# Altium integrated library Linear Technology PMIC-Switching Reg LTC1174-LTC3901.IntLib: 2647 symbols (part 74 of 310)
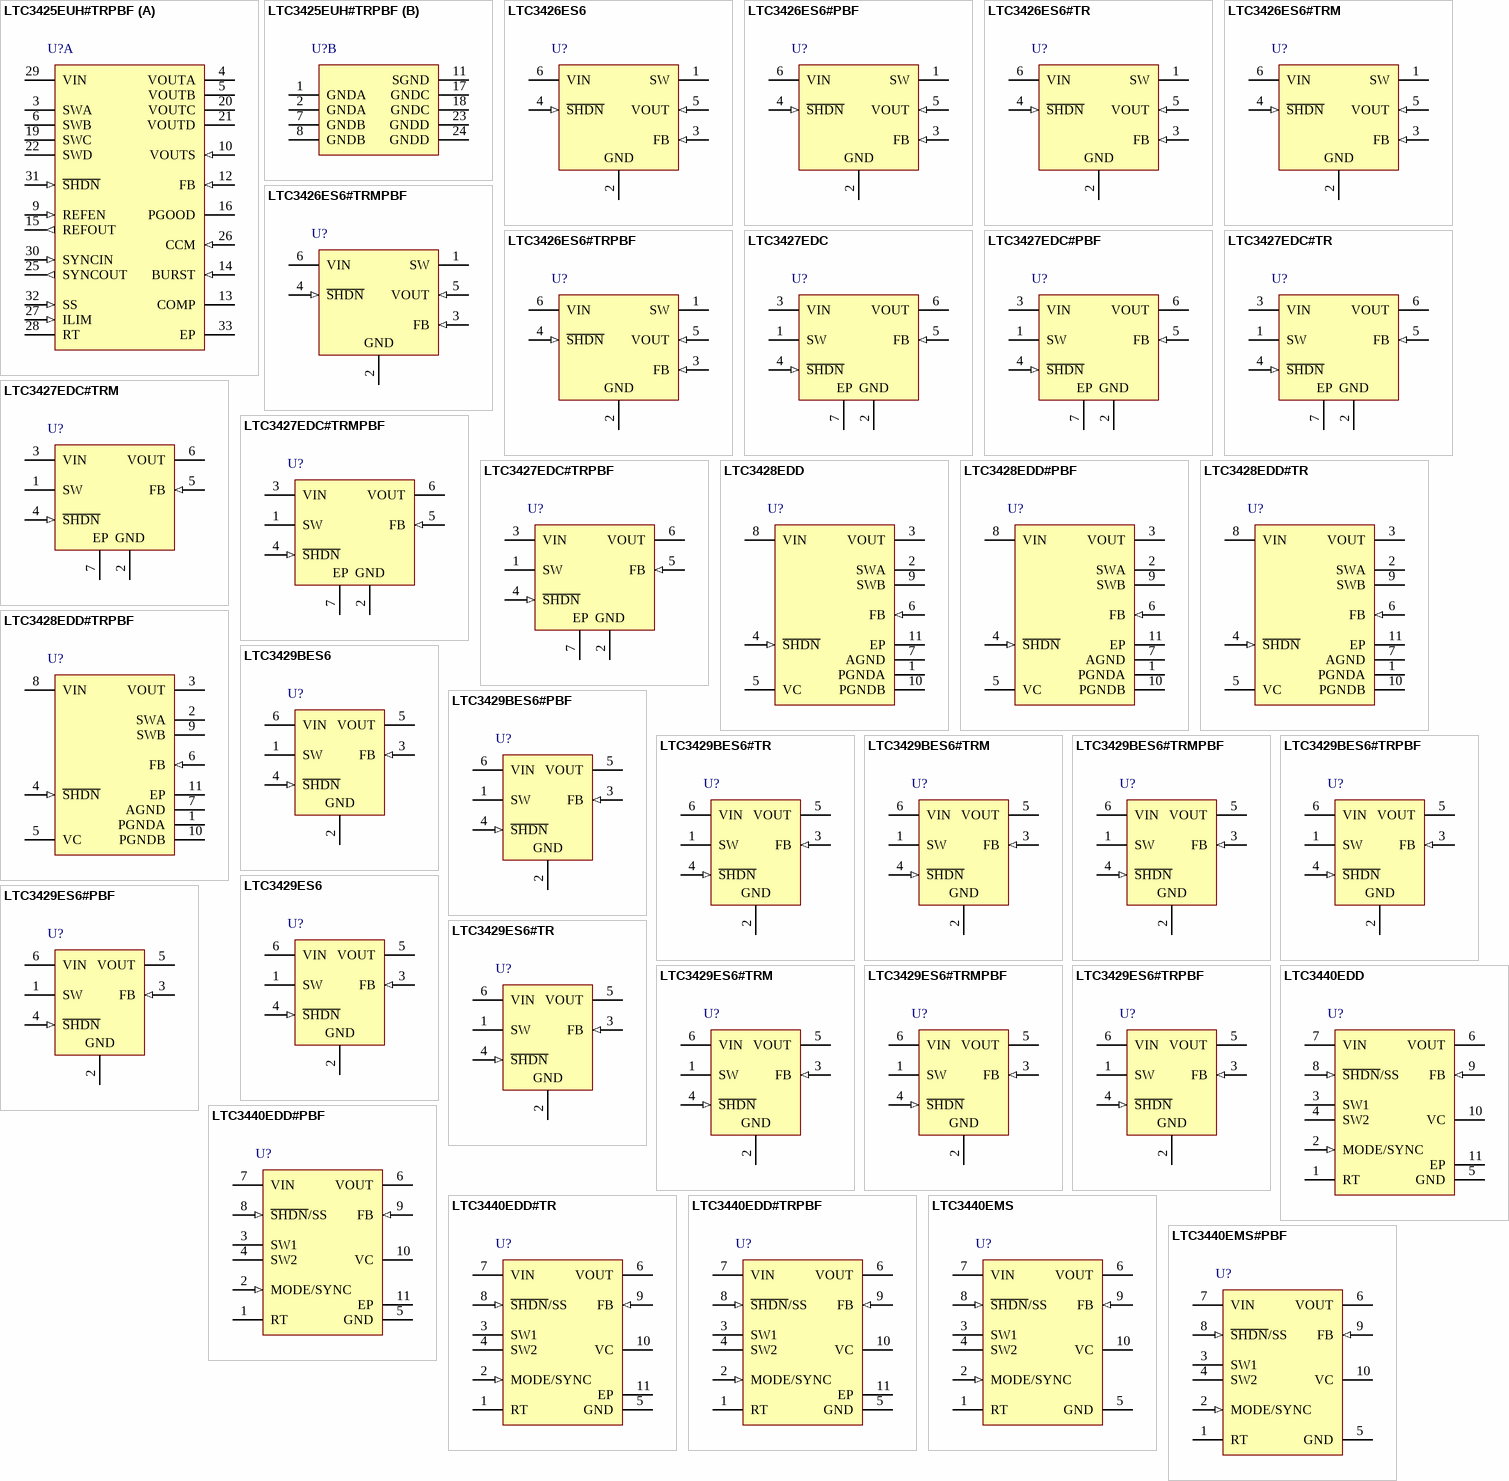
[diagram p158: symbols LTC3425EUH#TRPBF to LTC3440EMS#PBF]

## LTC3425EUH#TRPBF
designator U?
5 A, 8 MHz, 4-Phase Synchronous Step-Up DC/DC Converter, 32-pin QFN (UH-32), -40 to 85 degC, Pb-Free, Tape and Reel; Manufacturer: Linear Technology; PartNumber: LTC3425EUH#TRPBF; Number of Outputs: 1; PackageReference: UH-32; PackageDescription: 32-Pin Plastic QFN, Body 5 x 5 mm, Pitch 0.5 mm; Supplier 1: Digi-Key; Supplier Part Number 1: LTC3425EUH#TRPBF-ND; RoHS: TRUE; Code_JEDEC: MO-220
footprint LT-UH-32_N (QFN, 32-Leads, Body 5.1x5.1mm, Pitch 0.5mm, Thermal Pad 3.45X3.45mm, IPC Medium Density)
footprint LT-UH-32_L (QFN, 32-Leads, Body 5.1x5.1mm, Pitch 0.5mm, Thermal Pad 3.45X3.45mm, IPC High Density)
footprint LT-UH-32_M (QFN, 32-Leads, Body 5.1x5.1mm, Pitch 0.5mm, Thermal Pad 3.45X3.45mm, IPC Low Density)
part A pins: 3 SWA "Switch Pins. Connect inductors here. Minimize trace length to keep EMI to a minimum. For discontinuous inductor current, a controlled impedance is internally connected from SW to VIN to minimize EMI. For applications where (See Datasheet)", 4 VOUTA (power) "Output of the Four Synchronous Rectifiers. Connect output filter capacitors to these pins. Connect one low ESR ceramic capacitor directly from each pin to the ground plane.", 5 VOUTB (power) "Output of the Four Synchronous Rectifiers. Connect output filter capacitors to these pins. Connect one low ESR ceramic capacitor directly from each pin to the ground plane.", 6 SWB "Switch Pins. Connect inductors here. Minimize trace length to keep EMI to a minimum. For discontinuous inductor current, a controlled impedance is internally connected from SW to VIN to minimize EMI. For applications where (See Datasheet)", 9 REFEN (in) "Pull this pin above 1.4V to enable the REF output. Grounding this pin turns the REF output off to reduce quiescent current.", 10 VOUTS (in) "VOUT Sense Pin. Connect VOUTS directly to an output filter capacitor. The top of the feedback divider network should also be tied to this point.", 12 FB (in) "Feedback Pin. Connect FB to a resistor divider, keeping the trace as short as possible. The output voltage can be adjusted according to the following formula: VOUT = 1.22 x (R1+R2)/R1,where R1 is connected from FB(See Datasheet)", 13 COMP "Error Amp Output. A frequency compensation network is connected from this pin to ground to compensate the loop. See the section Closing the Feedback Loop for guidelines.", 14 BURST (in) "Burst Mode Threshold Adjust Pin. A resistor/capacitor combination from this pin to ground programs the average load current at which automatic Burst Mode operation is entered. For manual control of Burst Mode operation, (See Datasheet)", 15 REFOUT (out) "Buffered 1.22V Reference Output. This pin can source up to 100uA and sink up to 10uA (only active when REFEN is pulled high). This pin must be decoupled with a 0.1uF capacitor for stability.", 16 PGOOD (oc) "Open-Drain Output of the Power Good Comparator. This pin will go low when the output voltage drops 11% below its regulated value. Maximum sink current should be limited to 10mA.", 19 SWC "Switch Pins. Connect inductors here. Minimize trace length to keep EMI to a minimum. For discontinuous inductor current, a controlled impedance is internally connected from SW to VIN to minimize EMI. For applications where (See Datasheet)", 20 VOUTC (power) "Output of the Four Synchronous Rectifiers. Connect output filter capacitors to these pins. Connect one low ESR ceramic capacitor directly from each pin to the ground plane.", 21 VOUTD (power) "Output of the Four Synchronous Rectifiers. Connect output filter capacitors to these pins. Connect one low ESR ceramic capacitor directly from each pin to the ground plane.", 22 SWD "Switch Pins. Connect inductors here. Minimize trace length to keep EMI to a minimum. For discontinuous inductor current, a controlled impedance is internally connected from SW to VIN to minimize EMI. For applications where (See Datasheet)", 25 SYNCOUT (out) "Sync Output Pin. A clock is provided at the oscillator frequency, but phase-shifted 180 degrees to allow for synchronizing two devices for an 8-phase converter.", 26 CCM (in) "This pin is used to select forced continuous conduction mode. Normally this pin is grounded to allow CCM or DCM operation. To force continuous conduction mode, tie this pin to VOUT. In this mode, a reverse current of up to (See Datasheet)", 27 ILIM (in) "Current Limit Adjust Pin. Connect a resistor from ILIM to SGND to set the peak current limit threshold for the N-channel MOSFETs, according to the formula (note that this is the peak current in each inductor): (See Datasheet)", 28 RT "Connect a resistor from RT to SGND (or SGND plane) to program the oscillator frequency, according to the formula:fOSC=60/RT, fSWITCH=fOSC/4=15/RT,where fOSC is in MHz and RT is in kohm.", 29 VIN (power) "Input Supply Pin. Connect this to the input supply and decouple with 1uF minimum low ESR ceramic capacitor.", 30 SYNCIN (in) "Oscillator Synchronization Pin. A clock pulse width of 100ns minimum is required to synchronize the internal oscillator. If not used, SYNCIN should be grounded. The typical logic threshold for this input is:VOUT/2,The SYNCIN (See Datasheet)", 31 ~{SHDN} (in) "Shutdown Pin. Grounding S\H\D\N\ (or pulling it below 0.25V) shuts down the IC. Pull pin up to >=1V to enable. Once enabled, the pin only needs to be >=0.65V.", 32 SS (in) "Soft-Start pin. Connect a capacitor from this pin to ground to set the soft-start time, according to the formula: t(ms) = CSS (uF) x 320,The nominal soft-start charging current is 2.5uA. The active range of SS is from 0.8(See Datasheet)", 33 EP (power) "Additional Power Ground for the IC. Connect directly to the power ground plane."
part B pins: 1 GNDA (power) "Power Ground for the IC and the Four Internal N-channel MOSFETs. Connect directly to the power ground plane.", 2 GNDA (power) "Power Ground for the IC and the Four Internal N-channel MOSFETs. Connect directly to the power ground plane.", 7 GNDB (power) "Power Ground for the IC and the Four Internal N-channel MOSFETs. Connect directly to the power ground plane.", 8 GNDB (power) "Power Ground for the IC and the Four Internal N-channel MOSFETs. Connect directly to the power ground plane.", 11 SGND (power) "Signal Ground Pin. Connect to ground plane, near the feedback divider resistor.", 17 GNDC (power) "Power Ground for the IC and the Four Internal N-channel MOSFETs. Connect directly to the power ground plane.", 18 GNDC (power) "Power Ground for the IC and the Four Internal N-channel MOSFETs. Connect directly to the power ground plane.", 23 GNDD (power) "Power Ground for the IC and the Four Internal N-channel MOSFETs. Connect directly to the power ground plane.", 24 GNDD (power) "Power Ground for the IC and the Four Internal N-channel MOSFETs. Connect directly to the power ground plane."

## LTC3426ES6
designator U?
1.2 MHz Step-Up DC/DC Converter, 6-pin SOT23 (S6-6), -40 to 85 degC; Manufacturer: Linear Technology; PartNumber: LTC3426ES6; Number of Outputs: 1; PackageReference: S6-6; PackageDescription: 6-Pin Plastic TSOT-23, Body 2.9 x 1.63 mm, Pitch 0.95 mm; RoHS: FALSE; Code_JEDEC: MO-193
footprint LT-S6-6-TSOT-23_N (SOT23, 6-Leads, Body 2.9x1.75mm, Pitch 0.95mm, IPC Medium Density)
footprint LT-S6-6-TSOT-23_L (SOT23, 6-Leads, Body 2.9x1.75mm, Pitch 0.95mm, IPC High Density)
footprint LT-S6-6-TSOT-23_M (SOT23, 6-Leads, Body 2.9x1.75mm, Pitch 0.95mm, IPC Low Density)
pins: 1 SW (power) "Switch Pin. Connect inductor between SW and VIN. A Schottky diode is connected between SW and VOUT. Keep these PCB trace lengths as short and wide as possible to reduce EMI and voltage overshoot. If the inductor current (See Datasheet)", 2 GND (power) "Signal and Power Ground. Provide a short direct PCB path between GND and the (-) side of the output capacitor(s).", 3 FB (in) "Feedback Input to the gm Error Amplifier. Connect resistor divider tap to this pin.", 4 ~{SHDN} (in) "Logic Controlled Shutdown Input. S\H\D\N\ = High: Normal free running operation,S\H\D\N\ = Low: Shutdown, quiescent current < 1uA Typically, S\H\D\N\ should be connected to VIN through a 1M pull-up resistor.", 5 VOUT (in) "Output Voltage Sense Input. The NMOS switch gate drive is derived from the greater of VOUT and VIN.", 6 VIN (power) "Input Supply. Must be locally bypassed."

## LTC3426ES6#PBF
designator U?
1.2 MHz Step-Up DC/DC Converter, 6-pin SOT23 (S6-6), -40 to 85 degC, Pb-Free; Manufacturer: Linear Technology; PartNumber: LTC3426ES6#PBF; Number of Outputs: 1; PackageReference: S6-6; PackageDescription: 6-Pin Plastic TSOT-23, Body 2.9 x 1.63 mm, Pitch 0.95 mm; Supplier 1: Newark; Supplier Part Number 1: 78T3189; RoHS: TRUE; Code_JEDEC: MO-193
footprint LT-S6-6-TSOT-23_N (SOT23, 6-Leads, Body 2.9x1.75mm, Pitch 0.95mm, IPC Medium Density)
footprint LT-S6-6-TSOT-23_L (SOT23, 6-Leads, Body 2.9x1.75mm, Pitch 0.95mm, IPC High Density)
footprint LT-S6-6-TSOT-23_M (SOT23, 6-Leads, Body 2.9x1.75mm, Pitch 0.95mm, IPC Low Density)
pins: 1 SW (power) "Switch Pin. Connect inductor between SW and VIN. A Schottky diode is connected between SW and VOUT. Keep these PCB trace lengths as short and wide as possible to reduce EMI and voltage overshoot. If the inductor current (See Datasheet)", 2 GND (power) "Signal and Power Ground. Provide a short direct PCB path between GND and the (-) side of the output capacitor(s).", 3 FB (in) "Feedback Input to the gm Error Amplifier. Connect resistor divider tap to this pin.", 4 ~{SHDN} (in) "Logic Controlled Shutdown Input. S\H\D\N\ = High: Normal free running operation,S\H\D\N\ = Low: Shutdown, quiescent current < 1uA Typically, S\H\D\N\ should be connected to VIN through a 1M pull-up resistor.", 5 VOUT (in) "Output Voltage Sense Input. The NMOS switch gate drive is derived from the greater of VOUT and VIN.", 6 VIN (power) "Input Supply. Must be locally bypassed."

## LTC3426ES6#TR
designator U?
1.2 MHz Step-Up DC/DC Converter, 6-pin SOT23 (S6-6), -40 to 85 degC, Tape and Reel; Manufacturer: Linear Technology; PartNumber: LTC3426ES6#TR; Number of Outputs: 1; PackageReference: S6-6; PackageDescription: 6-Pin Plastic TSOT-23, Body 2.9 x 1.63 mm, Pitch 0.95 mm; RoHS: FALSE; Code_JEDEC: MO-193
footprint LT-S6-6-TSOT-23_N (SOT23, 6-Leads, Body 2.9x1.75mm, Pitch 0.95mm, IPC Medium Density)
footprint LT-S6-6-TSOT-23_L (SOT23, 6-Leads, Body 2.9x1.75mm, Pitch 0.95mm, IPC High Density)
footprint LT-S6-6-TSOT-23_M (SOT23, 6-Leads, Body 2.9x1.75mm, Pitch 0.95mm, IPC Low Density)
pins: 1 SW (power) "Switch Pin. Connect inductor between SW and VIN. A Schottky diode is connected between SW and VOUT. Keep these PCB trace lengths as short and wide as possible to reduce EMI and voltage overshoot. If the inductor current (See Datasheet)", 2 GND (power) "Signal and Power Ground. Provide a short direct PCB path between GND and the (-) side of the output capacitor(s).", 3 FB (in) "Feedback Input to the gm Error Amplifier. Connect resistor divider tap to this pin.", 4 ~{SHDN} (in) "Logic Controlled Shutdown Input. S\H\D\N\ = High: Normal free running operation,S\H\D\N\ = Low: Shutdown, quiescent current < 1uA Typically, S\H\D\N\ should be connected to VIN through a 1M pull-up resistor.", 5 VOUT (in) "Output Voltage Sense Input. The NMOS switch gate drive is derived from the greater of VOUT and VIN.", 6 VIN (power) "Input Supply. Must be locally bypassed."

## LTC3426ES6#TRM
designator U?
1.2 MHz Step-Up DC/DC Converter, 6-pin SOT23 (S6-6), -40 to 85 degC, Mini Tape and Reel; Manufacturer: Linear Technology; PartNumber: LTC3426ES6#TRM; Number of Outputs: 1; PackageReference: S6-6; PackageDescription: 6-Pin Plastic TSOT-23, Body 2.9 x 1.63 mm, Pitch 0.95 mm; RoHS: FALSE; Code_JEDEC: MO-193
footprint LT-S6-6-TSOT-23_N (SOT23, 6-Leads, Body 2.9x1.75mm, Pitch 0.95mm, IPC Medium Density)
footprint LT-S6-6-TSOT-23_L (SOT23, 6-Leads, Body 2.9x1.75mm, Pitch 0.95mm, IPC High Density)
footprint LT-S6-6-TSOT-23_M (SOT23, 6-Leads, Body 2.9x1.75mm, Pitch 0.95mm, IPC Low Density)
pins: 1 SW (power) "Switch Pin. Connect inductor between SW and VIN. A Schottky diode is connected between SW and VOUT. Keep these PCB trace lengths as short and wide as possible to reduce EMI and voltage overshoot. If the inductor current (See Datasheet)", 2 GND (power) "Signal and Power Ground. Provide a short direct PCB path between GND and the (-) side of the output capacitor(s).", 3 FB (in) "Feedback Input to the gm Error Amplifier. Connect resistor divider tap to this pin.", 4 ~{SHDN} (in) "Logic Controlled Shutdown Input. S\H\D\N\ = High: Normal free running operation,S\H\D\N\ = Low: Shutdown, quiescent current < 1uA Typically, S\H\D\N\ should be connected to VIN through a 1M pull-up resistor.", 5 VOUT (in) "Output Voltage Sense Input. The NMOS switch gate drive is derived from the greater of VOUT and VIN.", 6 VIN (power) "Input Supply. Must be locally bypassed."

## LTC3426ES6#TRMPBF
designator U?
1.2 MHz Step-Up DC/DC Converter, 6-pin SOT23 (S6-6), -40 to 85 degC, Pb-Free, Mini Tape and Reel; Manufacturer: Linear Technology; PartNumber: LTC3426ES6#TRMPBF; Number of Outputs: 1; PackageReference: S6-6; PackageDescription: 6-Pin Plastic TSOT-23, Body 2.9 x 1.63 mm, Pitch 0.95 mm; Supplier 1: Digi-Key; Supplier Part Number 1: LTC3426ES6#TRMPBFTR-ND; RoHS: TRUE; Code_JEDEC: MO-193
footprint LT-S6-6-TSOT-23_N (SOT23, 6-Leads, Body 2.9x1.75mm, Pitch 0.95mm, IPC Medium Density)
footprint LT-S6-6-TSOT-23_L (SOT23, 6-Leads, Body 2.9x1.75mm, Pitch 0.95mm, IPC High Density)
footprint LT-S6-6-TSOT-23_M (SOT23, 6-Leads, Body 2.9x1.75mm, Pitch 0.95mm, IPC Low Density)
pins: 1 SW (power) "Switch Pin. Connect inductor between SW and VIN. A Schottky diode is connected between SW and VOUT. Keep these PCB trace lengths as short and wide as possible to reduce EMI and voltage overshoot. If the inductor current (See Datasheet)", 2 GND (power) "Signal and Power Ground. Provide a short direct PCB path between GND and the (-) side of the output capacitor(s).", 3 FB (in) "Feedback Input to the gm Error Amplifier. Connect resistor divider tap to this pin.", 4 ~{SHDN} (in) "Logic Controlled Shutdown Input. S\H\D\N\ = High: Normal free running operation,S\H\D\N\ = Low: Shutdown, quiescent current < 1uA Typically, S\H\D\N\ should be connected to VIN through a 1M pull-up resistor.", 5 VOUT (in) "Output Voltage Sense Input. The NMOS switch gate drive is derived from the greater of VOUT and VIN.", 6 VIN (power) "Input Supply. Must be locally bypassed."

## LTC3426ES6#TRPBF
designator U?
1.2 MHz Step-Up DC/DC Converter, 6-pin SOT23 (S6-6), -40 to 85 degC, Pb-Free, Tape and Reel; Manufacturer: Linear Technology; PartNumber: LTC3426ES6#TRPBF; Number of Outputs: 1; PackageReference: S6-6; PackageDescription: 6-Pin Plastic TSOT-23, Body 2.9 x 1.63 mm, Pitch 0.95 mm; Supplier 1: Digi-Key; Supplier Part Number 1: LTC3426ES6#TRPBF-ND; RoHS: TRUE; Code_JEDEC: MO-193
footprint LT-S6-6-TSOT-23_N (SOT23, 6-Leads, Body 2.9x1.75mm, Pitch 0.95mm, IPC Medium Density)
footprint LT-S6-6-TSOT-23_L (SOT23, 6-Leads, Body 2.9x1.75mm, Pitch 0.95mm, IPC High Density)
footprint LT-S6-6-TSOT-23_M (SOT23, 6-Leads, Body 2.9x1.75mm, Pitch 0.95mm, IPC Low Density)
pins: 1 SW (power) "Switch Pin. Connect inductor between SW and VIN. A Schottky diode is connected between SW and VOUT. Keep these PCB trace lengths as short and wide as possible to reduce EMI and voltage overshoot. If the inductor current (See Datasheet)", 2 GND (power) "Signal and Power Ground. Provide a short direct PCB path between GND and the (-) side of the output capacitor(s).", 3 FB (in) "Feedback Input to the gm Error Amplifier. Connect resistor divider tap to this pin.", 4 ~{SHDN} (in) "Logic Controlled Shutdown Input. S\H\D\N\ = High: Normal free running operation,S\H\D\N\ = Low: Shutdown, quiescent current < 1uA Typically, S\H\D\N\ should be connected to VIN through a 1M pull-up resistor.", 5 VOUT (in) "Output Voltage Sense Input. The NMOS switch gate drive is derived from the greater of VOUT and VIN.", 6 VIN (power) "Input Supply. Must be locally bypassed."

## LTC3427EDC
designator U?
500 mA, 1.25 MHz Synchronous Step-Up DC/DC Converter, 6-pin SON (DC6-6), -40 to 85 degC; Manufacturer: Linear Technology; PartNumber: LTC3427EDC; Number of Outputs: 1; PackageReference: DC6-6; PackageDescription: 6-Pin Plastic DFN, Body 2 x 2 mm, Pitch 0.5 mm; RoHS: FALSE; Code_JEDEC: MO-229
footprint LT-DC6-6_V (SON, 6-Leads, Body 2x2mm, Pitch 0.5mm, Thermal Pad 1.42x0.61mm)
pins: 1 SW "Switch Pin for the Inductor Connection. Minimize trace length between SW and the inductor. For discontinuous inductor current, an internal 200ohm impedance is connected from SW to VIN to eliminate high frequency ringing, (See Datasheet)", 2 GND (power) "Signal and Power Ground. Provide a short, direct PCB path between GND and the (-) side of the input and output capacitor(s).", 3 VIN (power) "Input Supply Voltage. Connect VIN to the input supply and decouple with a 2.2uF or larger ceramic capacitor as close to VIN as possible.", 4 ~{SHDN} (in) "Shutdown Input. Less than 350mV on S\H\D\N\ shuts down the LTC3427. Placing 1V or more on S\H\D\N\ enables the LTC3427.", 5 FB (in) "Feedback Input to the Error Amplifier. Connect resistor divider tap to this pin.", 6 VOUT (power) "Output Voltage Sense Input and Drain of the Internal Synchronous Rectifier MOSFET. Driver bias is derived from VOUT. PCB trace length from VOUT to the output filter capacitor(s) should be as short and wide as possible.", 7 EP (power) "Ground for the LTC3427. This pin must be soldered to the PCB ground plane for electrical connection and rated thermal performance."

## LTC3427EDC#PBF
designator U?
500 mA, 1.25 MHz Synchronous Step-Up DC/DC Converter, 6-pin SON (DC6-6), -40 to 85 degC, Pb-Free; Manufacturer: Linear Technology; PartNumber: LTC3427EDC#PBF; Number of Outputs: 1; PackageReference: DC6-6; PackageDescription: 6-Pin Plastic DFN, Body 2 x 2 mm, Pitch 0.5 mm; RoHS: TRUE; Code_JEDEC: MO-229
footprint LT-DC6-6_V (SON, 6-Leads, Body 2x2mm, Pitch 0.5mm, Thermal Pad 1.42x0.61mm)
pins: 1 SW "Switch Pin for the Inductor Connection. Minimize trace length between SW and the inductor. For discontinuous inductor current, an internal 200ohm impedance is connected from SW to VIN to eliminate high frequency ringing, (See Datasheet)", 2 GND (power) "Signal and Power Ground. Provide a short, direct PCB path between GND and the (-) side of the input and output capacitor(s).", 3 VIN (power) "Input Supply Voltage. Connect VIN to the input supply and decouple with a 2.2uF or larger ceramic capacitor as close to VIN as possible.", 4 ~{SHDN} (in) "Shutdown Input. Less than 350mV on S\H\D\N\ shuts down the LTC3427. Placing 1V or more on S\H\D\N\ enables the LTC3427.", 5 FB (in) "Feedback Input to the Error Amplifier. Connect resistor divider tap to this pin.", 6 VOUT (power) "Output Voltage Sense Input and Drain of the Internal Synchronous Rectifier MOSFET. Driver bias is derived from VOUT. PCB trace length from VOUT to the output filter capacitor(s) should be as short and wide as possible.", 7 EP (power) "Ground for the LTC3427. This pin must be soldered to the PCB ground plane for electrical connection and rated thermal performance."

## LTC3427EDC#TR
designator U?
500 mA, 1.25 MHz Synchronous Step-Up DC/DC Converter, 6-pin SON (DC6-6), -40 to 85 degC, Tape and Reel; Manufacturer: Linear Technology; PartNumber: LTC3427EDC#TR; Number of Outputs: 1; PackageReference: DC6-6; PackageDescription: 6-Pin Plastic DFN, Body 2 x 2 mm, Pitch 0.5 mm; RoHS: FALSE; Code_JEDEC: MO-229
footprint LT-DC6-6_V (SON, 6-Leads, Body 2x2mm, Pitch 0.5mm, Thermal Pad 1.42x0.61mm)
pins: 1 SW "Switch Pin for the Inductor Connection. Minimize trace length between SW and the inductor. For discontinuous inductor current, an internal 200ohm impedance is connected from SW to VIN to eliminate high frequency ringing, (See Datasheet)", 2 GND (power) "Signal and Power Ground. Provide a short, direct PCB path between GND and the (-) side of the input and output capacitor(s).", 3 VIN (power) "Input Supply Voltage. Connect VIN to the input supply and decouple with a 2.2uF or larger ceramic capacitor as close to VIN as possible.", 4 ~{SHDN} (in) "Shutdown Input. Less than 350mV on S\H\D\N\ shuts down the LTC3427. Placing 1V or more on S\H\D\N\ enables the LTC3427.", 5 FB (in) "Feedback Input to the Error Amplifier. Connect resistor divider tap to this pin.", 6 VOUT (power) "Output Voltage Sense Input and Drain of the Internal Synchronous Rectifier MOSFET. Driver bias is derived from VOUT. PCB trace length from VOUT to the output filter capacitor(s) should be as short and wide as possible.", 7 EP (power) "Ground for the LTC3427. This pin must be soldered to the PCB ground plane for electrical connection and rated thermal performance."

## LTC3427EDC#TRM
designator U?
500 mA, 1.25 MHz Synchronous Step-Up DC/DC Converter, 6-pin SON (DC6-6), -40 to 85 degC, Mini Tape and Reel; Manufacturer: Linear Technology; PartNumber: LTC3427EDC#TRM; Number of Outputs: 1; PackageReference: DC6-6; PackageDescription: 6-Pin Plastic DFN, Body 2 x 2 mm, Pitch 0.5 mm; RoHS: FALSE; Code_JEDEC: MO-229
footprint LT-DC6-6_V (SON, 6-Leads, Body 2x2mm, Pitch 0.5mm, Thermal Pad 1.42x0.61mm)
pins: 1 SW "Switch Pin for the Inductor Connection. Minimize trace length between SW and the inductor. For discontinuous inductor current, an internal 200ohm impedance is connected from SW to VIN to eliminate high frequency ringing, (See Datasheet)", 2 GND (power) "Signal and Power Ground. Provide a short, direct PCB path between GND and the (-) side of the input and output capacitor(s).", 3 VIN (power) "Input Supply Voltage. Connect VIN to the input supply and decouple with a 2.2uF or larger ceramic capacitor as close to VIN as possible.", 4 ~{SHDN} (in) "Shutdown Input. Less than 350mV on S\H\D\N\ shuts down the LTC3427. Placing 1V or more on S\H\D\N\ enables the LTC3427.", 5 FB (in) "Feedback Input to the Error Amplifier. Connect resistor divider tap to this pin.", 6 VOUT (power) "Output Voltage Sense Input and Drain of the Internal Synchronous Rectifier MOSFET. Driver bias is derived from VOUT. PCB trace length from VOUT to the output filter capacitor(s) should be as short and wide as possible.", 7 EP (power) "Ground for the LTC3427. This pin must be soldered to the PCB ground plane for electrical connection and rated thermal performance."

## LTC3427EDC#TRMPBF
designator U?
500 mA, 1.25 MHz Synchronous Step-Up DC/DC Converter, 6-pin SON (DC6-6), -40 to 85 degC, Pb-Free, Mini Tape and Reel; Manufacturer: Linear Technology; PartNumber: LTC3427EDC#TRMPBF; Number of Outputs: 1; PackageReference: DC6-6; PackageDescription: 6-Pin Plastic DFN, Body 2 x 2 mm, Pitch 0.5 mm; Supplier 1: Digi-Key; Supplier Part Number 1: LTC3427EDC#TRMPBF-ND; RoHS: TRUE; Code_JEDEC: MO-229
footprint LT-DC6-6_V (SON, 6-Leads, Body 2x2mm, Pitch 0.5mm, Thermal Pad 1.42x0.61mm)
pins: 1 SW "Switch Pin for the Inductor Connection. Minimize trace length between SW and the inductor. For discontinuous inductor current, an internal 200ohm impedance is connected from SW to VIN to eliminate high frequency ringing, (See Datasheet)", 2 GND (power) "Signal and Power Ground. Provide a short, direct PCB path between GND and the (-) side of the input and output capacitor(s).", 3 VIN (power) "Input Supply Voltage. Connect VIN to the input supply and decouple with a 2.2uF or larger ceramic capacitor as close to VIN as possible.", 4 ~{SHDN} (in) "Shutdown Input. Less than 350mV on S\H\D\N\ shuts down the LTC3427. Placing 1V or more on S\H\D\N\ enables the LTC3427.", 5 FB (in) "Feedback Input to the Error Amplifier. Connect resistor divider tap to this pin.", 6 VOUT (power) "Output Voltage Sense Input and Drain of the Internal Synchronous Rectifier MOSFET. Driver bias is derived from VOUT. PCB trace length from VOUT to the output filter capacitor(s) should be as short and wide as possible.", 7 EP (power) "Ground for the LTC3427. This pin must be soldered to the PCB ground plane for electrical connection and rated thermal performance."

## LTC3427EDC#TRPBF
designator U?
500 mA, 1.25 MHz Synchronous Step-Up DC/DC Converter, 6-pin SON (DC6-6), -40 to 85 degC, Pb-Free, Tape and Reel; Manufacturer: Linear Technology; PartNumber: LTC3427EDC#TRPBF; Number of Outputs: 1; PackageReference: DC6-6; PackageDescription: 6-Pin Plastic DFN, Body 2 x 2 mm, Pitch 0.5 mm; Supplier 1: Digi-Key; Supplier Part Number 1: LTC3427EDC#TRPBF-ND; RoHS: TRUE; Code_JEDEC: MO-229
footprint LT-DC6-6_V (SON, 6-Leads, Body 2x2mm, Pitch 0.5mm, Thermal Pad 1.42x0.61mm)
pins: 1 SW "Switch Pin for the Inductor Connection. Minimize trace length between SW and the inductor. For discontinuous inductor current, an internal 200ohm impedance is connected from SW to VIN to eliminate high frequency ringing, (See Datasheet)", 2 GND (power) "Signal and Power Ground. Provide a short, direct PCB path between GND and the (-) side of the input and output capacitor(s).", 3 VIN (power) "Input Supply Voltage. Connect VIN to the input supply and decouple with a 2.2uF or larger ceramic capacitor as close to VIN as possible.", 4 ~{SHDN} (in) "Shutdown Input. Less than 350mV on S\H\D\N\ shuts down the LTC3427. Placing 1V or more on S\H\D\N\ enables the LTC3427.", 5 FB (in) "Feedback Input to the Error Amplifier. Connect resistor divider tap to this pin.", 6 VOUT (power) "Output Voltage Sense Input and Drain of the Internal Synchronous Rectifier MOSFET. Driver bias is derived from VOUT. PCB trace length from VOUT to the output filter capacitor(s) should be as short and wide as possible.", 7 EP (power) "Ground for the LTC3427. This pin must be soldered to the PCB ground plane for electrical connection and rated thermal performance."

## LTC3428EDD
designator U?
4 A, 2 MHz Dual Phase Step-Up DC/DC Converter, 10-pin SON (DD-10), -40 to 85 degC; Manufacturer: Linear Technology; PartNumber: LTC3428EDD; Number of Outputs: 1; PackageReference: DD-10; PackageDescription: 10-Pin Plastic DFN, Body 3 x 3 mm, Pitch 0.5 mm; RoHS: FALSE; Code_JEDEC: MO-229
footprint LT-DD-10_V (SON, 10-Leads, Body 3x3mm, Pitch 0.5mm, Thermal Pad 2.38x1.65mm)
pins: 1 PGNDA (power) "Power Ground for the IC. Tie directly to local ground plane.", 2 SWA (power) "Phase B and Phase A Switch Pins. The inductor and Schottky diodes for each phase are connected to these pins. Minimize trace length to reduce EMI.", 3 VOUT (power) "Power Supply Output and Bootstrapped Power Source for the IC. Connect low ESR output filter capacitors from this pin to the ground plane.", 4 ~{SHDN} (in) "Shutdown Pin. Grounding this pin shuts down the IC. Connect to a voltage greater than 1.5V to enable.", 5 VC "Error Amp Output. A frequency compensation network is connected to this pin to compensate the boost converter loop.", 6 FB (in) "Feedback Pin. A resistor divider from VOUT is connected here to set the output voltage according to VOUT = 1.243 ?(1 + R1 / R2)", 7 AGND (power) "Signal Ground for the IC. Connect to ground plane near feedback resistor divider.", 8 VIN (power) "Input Supply Pin. Bypass VIN with a low ESR ceramic capacitor of at least 4.7uF. X5R and X7R dielectrics are preferred for their superior voltage and temperature characteristics.", 9 SWB (power) "Phase B and Phase A Switch Pins. The inductor and Schottky diodes for each phase are connected to these pins. Minimize trace length to reduce EMI.", 10 PGNDB (power) "Power Ground for the IC. Tie directly to local ground plane.", 11 EP (power) "Power Ground for the IC. Tie directly to local ground plane."

## LTC3428EDD#PBF
designator U?
4 A, 2 MHz Dual Phase Step-Up DC/DC Converter, 10-pin SON (DD-10), -40 to 85 degC, Pb-Free; Manufacturer: Linear Technology; PartNumber: LTC3428EDD#PBF; Number of Outputs: 1; PackageReference: DD-10; PackageDescription: 10-Pin Plastic DFN, Body 3 x 3 mm, Pitch 0.5 mm; Supplier 1: Digi-Key; Supplier Part Number 1: LTC3428EDD#PBF-ND; RoHS: TRUE; Code_JEDEC: MO-229
footprint LT-DD-10_V (SON, 10-Leads, Body 3x3mm, Pitch 0.5mm, Thermal Pad 2.38x1.65mm)
pins: 1 PGNDA (power) "Power Ground for the IC. Tie directly to local ground plane.", 2 SWA (power) "Phase B and Phase A Switch Pins. The inductor and Schottky diodes for each phase are connected to these pins. Minimize trace length to reduce EMI.", 3 VOUT (power) "Power Supply Output and Bootstrapped Power Source for the IC. Connect low ESR output filter capacitors from this pin to the ground plane.", 4 ~{SHDN} (in) "Shutdown Pin. Grounding this pin shuts down the IC. Connect to a voltage greater than 1.5V to enable.", 5 VC "Error Amp Output. A frequency compensation network is connected to this pin to compensate the boost converter loop.", 6 FB (in) "Feedback Pin. A resistor divider from VOUT is connected here to set the output voltage according to VOUT = 1.243 ?(1 + R1 / R2)", 7 AGND (power) "Signal Ground for the IC. Connect to ground plane near feedback resistor divider.", 8 VIN (power) "Input Supply Pin. Bypass VIN with a low ESR ceramic capacitor of at least 4.7uF. X5R and X7R dielectrics are preferred for their superior voltage and temperature characteristics.", 9 SWB (power) "Phase B and Phase A Switch Pins. The inductor and Schottky diodes for each phase are connected to these pins. Minimize trace length to reduce EMI.", 10 PGNDB (power) "Power Ground for the IC. Tie directly to local ground plane.", 11 EP (power) "Power Ground for the IC. Tie directly to local ground plane."

## LTC3428EDD#TR
designator U?
4 A, 2 MHz Dual Phase Step-Up DC/DC Converter, 10-pin SON (DD-10), -40 to 85 degC, Tape and Reel; Manufacturer: Linear Technology; PartNumber: LTC3428EDD#TR; Number of Outputs: 1; PackageReference: DD-10; PackageDescription: 10-Pin Plastic DFN, Body 3 x 3 mm, Pitch 0.5 mm; RoHS: FALSE; Code_JEDEC: MO-229
footprint LT-DD-10_V (SON, 10-Leads, Body 3x3mm, Pitch 0.5mm, Thermal Pad 2.38x1.65mm)
pins: 1 PGNDA (power) "Power Ground for the IC. Tie directly to local ground plane.", 2 SWA (power) "Phase B and Phase A Switch Pins. The inductor and Schottky diodes for each phase are connected to these pins. Minimize trace length to reduce EMI.", 3 VOUT (power) "Power Supply Output and Bootstrapped Power Source for the IC. Connect low ESR output filter capacitors from this pin to the ground plane.", 4 ~{SHDN} (in) "Shutdown Pin. Grounding this pin shuts down the IC. Connect to a voltage greater than 1.5V to enable.", 5 VC "Error Amp Output. A frequency compensation network is connected to this pin to compensate the boost converter loop.", 6 FB (in) "Feedback Pin. A resistor divider from VOUT is connected here to set the output voltage according to VOUT = 1.243 ?(1 + R1 / R2)", 7 AGND (power) "Signal Ground for the IC. Connect to ground plane near feedback resistor divider.", 8 VIN (power) "Input Supply Pin. Bypass VIN with a low ESR ceramic capacitor of at least 4.7uF. X5R and X7R dielectrics are preferred for their superior voltage and temperature characteristics.", 9 SWB (power) "Phase B and Phase A Switch Pins. The inductor and Schottky diodes for each phase are connected to these pins. Minimize trace length to reduce EMI.", 10 PGNDB (power) "Power Ground for the IC. Tie directly to local ground plane.", 11 EP (power) "Power Ground for the IC. Tie directly to local ground plane."

## LTC3428EDD#TRPBF
designator U?
4 A, 2 MHz Dual Phase Step-Up DC/DC Converter, 10-pin SON (DD-10), -40 to 85 degC, Pb-Free, Tape and Reel; Manufacturer: Linear Technology; PartNumber: LTC3428EDD#TRPBF; Number of Outputs: 1; PackageReference: DD-10; PackageDescription: 10-Pin Plastic DFN, Body 3 x 3 mm, Pitch 0.5 mm; Supplier 1: Digi-Key; Supplier Part Number 1: LTC3428EDD#TRPBF-ND; RoHS: TRUE; Code_JEDEC: MO-229
footprint LT-DD-10_V (SON, 10-Leads, Body 3x3mm, Pitch 0.5mm, Thermal Pad 2.38x1.65mm)
pins: 1 PGNDA (power) "Power Ground for the IC. Tie directly to local ground plane.", 2 SWA (power) "Phase B and Phase A Switch Pins. The inductor and Schottky diodes for each phase are connected to these pins. Minimize trace length to reduce EMI.", 3 VOUT (power) "Power Supply Output and Bootstrapped Power Source for the IC. Connect low ESR output filter capacitors from this pin to the ground plane.", 4 ~{SHDN} (in) "Shutdown Pin. Grounding this pin shuts down the IC. Connect to a voltage greater than 1.5V to enable.", 5 VC "Error Amp Output. A frequency compensation network is connected to this pin to compensate the boost converter loop.", 6 FB (in) "Feedback Pin. A resistor divider from VOUT is connected here to set the output voltage according to VOUT = 1.243 ?(1 + R1 / R2)", 7 AGND (power) "Signal Ground for the IC. Connect to ground plane near feedback resistor divider.", 8 VIN (power) "Input Supply Pin. Bypass VIN with a low ESR ceramic capacitor of at least 4.7uF. X5R and X7R dielectrics are preferred for their superior voltage and temperature characteristics.", 9 SWB (power) "Phase B and Phase A Switch Pins. The inductor and Schottky diodes for each phase are connected to these pins. Minimize trace length to reduce EMI.", 10 PGNDB (power) "Power Ground for the IC. Tie directly to local ground plane.", 11 EP (power) "Power Ground for the IC. Tie directly to local ground plane."

## LTC3429BES6
designator U?
600 mA, 500 kHz Micropower Synchronous Boost Converter with Output Disconnect, 6-pin SOT23 (S6-6), -40 to 85 degC; Manufacturer: Linear Technology; PartNumber: LTC3429BES6; Number of Outputs: 1; PackageReference: S6-6; PackageDescription: 6-Pin Plastic TSOT-23, Body 2.9 x 1.63 mm, Pitch 0.95 mm; RoHS: FALSE; Code_JEDEC: MO-193
footprint LT-S6-6-TSOT-23_N (SOT23, 6-Leads, Body 2.9x1.75mm, Pitch 0.95mm, IPC Medium Density)
footprint LT-S6-6-TSOT-23_L (SOT23, 6-Leads, Body 2.9x1.75mm, Pitch 0.95mm, IPC High Density)
footprint LT-S6-6-TSOT-23_M (SOT23, 6-Leads, Body 2.9x1.75mm, Pitch 0.95mm, IPC Low Density)
pins: 1 SW, 2 GND (power), 3 FB (in), 4 ~{SHDN} (in), 5 VOUT (power), 6 VIN (power)

## LTC3429BES6#PBF
designator U?
600 mA, 500 kHz Micropower Synchronous Boost Converter with Output Disconnect, 6-pin SOT23 (S6-6), -40 to 85 degC, Pb-Free; Manufacturer: Linear Technology; PartNumber: LTC3429BES6#PBF; Number of Outputs: 1; PackageReference: S6-6; PackageDescription: 6-Pin Plastic TSOT-23, Body 2.9 x 1.63 mm, Pitch 0.95 mm; Supplier 1: Newark; Supplier Part Number 1: 78T3191; RoHS: TRUE; Code_JEDEC: MO-193
footprint LT-S6-6-TSOT-23_N (SOT23, 6-Leads, Body 2.9x1.75mm, Pitch 0.95mm, IPC Medium Density)
footprint LT-S6-6-TSOT-23_L (SOT23, 6-Leads, Body 2.9x1.75mm, Pitch 0.95mm, IPC High Density)
footprint LT-S6-6-TSOT-23_M (SOT23, 6-Leads, Body 2.9x1.75mm, Pitch 0.95mm, IPC Low Density)
pins: 1 SW, 2 GND (power), 3 FB (in), 4 ~{SHDN} (in), 5 VOUT (power), 6 VIN (power)

## LTC3429BES6#TR
designator U?
600 mA, 500 kHz Micropower Synchronous Boost Converter with Output Disconnect, 6-pin SOT23 (S6-6), -40 to 85 degC, Tape and Reel; Manufacturer: Linear Technology; PartNumber: LTC3429BES6#TR; Number of Outputs: 1; PackageReference: S6-6; PackageDescription: 6-Pin Plastic TSOT-23, Body 2.9 x 1.63 mm, Pitch 0.95 mm; RoHS: FALSE; Code_JEDEC: MO-193
footprint LT-S6-6-TSOT-23_N (SOT23, 6-Leads, Body 2.9x1.75mm, Pitch 0.95mm, IPC Medium Density)
footprint LT-S6-6-TSOT-23_L (SOT23, 6-Leads, Body 2.9x1.75mm, Pitch 0.95mm, IPC High Density)
footprint LT-S6-6-TSOT-23_M (SOT23, 6-Leads, Body 2.9x1.75mm, Pitch 0.95mm, IPC Low Density)
pins: 1 SW, 2 GND (power), 3 FB (in), 4 ~{SHDN} (in), 5 VOUT (power), 6 VIN (power)

## LTC3429BES6#TRM
designator U?
600 mA, 500 kHz Micropower Synchronous Boost Converter with Output Disconnect, 6-pin SOT23 (S6-6), -40 to 85 degC, Mini Tape and Reel; Manufacturer: Linear Technology; PartNumber: LTC3429BES6#TRM; Number of Outputs: 1; PackageReference: S6-6; PackageDescription: 6-Pin Plastic TSOT-23, Body 2.9 x 1.63 mm, Pitch 0.95 mm; RoHS: FALSE; Code_JEDEC: MO-193
footprint LT-S6-6-TSOT-23_N (SOT23, 6-Leads, Body 2.9x1.75mm, Pitch 0.95mm, IPC Medium Density)
footprint LT-S6-6-TSOT-23_L (SOT23, 6-Leads, Body 2.9x1.75mm, Pitch 0.95mm, IPC High Density)
footprint LT-S6-6-TSOT-23_M (SOT23, 6-Leads, Body 2.9x1.75mm, Pitch 0.95mm, IPC Low Density)
pins: 1 SW, 2 GND (power), 3 FB (in), 4 ~{SHDN} (in), 5 VOUT (power), 6 VIN (power)

## LTC3429BES6#TRMPBF
designator U?
600 mA, 500 kHz Micropower Synchronous Boost Converter with Output Disconnect, 6-pin SOT23 (S6-6), -40 to 85 degC, Pb-Free, Mini Tape and Reel; Manufacturer: Linear Technology; PartNumber: LTC3429BES6#TRMPBF; Number of Outputs: 1; PackageReference: S6-6; PackageDescription: 6-Pin Plastic TSOT-23, Body 2.9 x 1.63 mm, Pitch 0.95 mm; Supplier 1: Digi-Key; Supplier Part Number 1: LTC3429BES6#TRMPBF-ND; RoHS: TRUE; Code_JEDEC: MO-193
footprint LT-S6-6-TSOT-23_N (SOT23, 6-Leads, Body 2.9x1.75mm, Pitch 0.95mm, IPC Medium Density)
footprint LT-S6-6-TSOT-23_L (SOT23, 6-Leads, Body 2.9x1.75mm, Pitch 0.95mm, IPC High Density)
footprint LT-S6-6-TSOT-23_M (SOT23, 6-Leads, Body 2.9x1.75mm, Pitch 0.95mm, IPC Low Density)
pins: 1 SW, 2 GND (power), 3 FB (in), 4 ~{SHDN} (in), 5 VOUT (power), 6 VIN (power)

## LTC3429BES6#TRPBF
designator U?
600 mA, 500 kHz Micropower Synchronous Boost Converter with Output Disconnect, 6-pin SOT23 (S6-6), -40 to 85 degC, Pb-Free, Tape and Reel; Manufacturer: Linear Technology; PartNumber: LTC3429BES6#TRPBF; Number of Outputs: 1; PackageReference: S6-6; PackageDescription: 6-Pin Plastic TSOT-23, Body 2.9 x 1.63 mm, Pitch 0.95 mm; Supplier 1: Digi-Key; Supplier Part Number 1: LTC3429BES6#TRPBF-ND; RoHS: TRUE; Code_JEDEC: MO-193
footprint LT-S6-6-TSOT-23_N (SOT23, 6-Leads, Body 2.9x1.75mm, Pitch 0.95mm, IPC Medium Density)
footprint LT-S6-6-TSOT-23_L (SOT23, 6-Leads, Body 2.9x1.75mm, Pitch 0.95mm, IPC High Density)
footprint LT-S6-6-TSOT-23_M (SOT23, 6-Leads, Body 2.9x1.75mm, Pitch 0.95mm, IPC Low Density)
pins: 1 SW, 2 GND (power), 3 FB (in), 4 ~{SHDN} (in), 5 VOUT (power), 6 VIN (power)

## LTC3429ES6
designator U?
600 mA, 500 kHz Micropower Synchronous Boost Converter with Output Disconnect, 6-pin SOT23 (S6-6), -40 to 85 degC; Manufacturer: Linear Technology; PartNumber: LTC3429ES6; Number of Outputs: 1; PackageReference: S6-6; PackageDescription: 6-Pin Plastic TSOT-23, Body 2.9 x 1.63 mm, Pitch 0.95 mm; RoHS: FALSE; Code_JEDEC: MO-193
footprint LT-S6-6-TSOT-23_N (SOT23, 6-Leads, Body 2.9x1.75mm, Pitch 0.95mm, IPC Medium Density)
footprint LT-S6-6-TSOT-23_L (SOT23, 6-Leads, Body 2.9x1.75mm, Pitch 0.95mm, IPC High Density)
footprint LT-S6-6-TSOT-23_M (SOT23, 6-Leads, Body 2.9x1.75mm, Pitch 0.95mm, IPC Low Density)
pins: 1 SW, 2 GND (power), 3 FB (in), 4 ~{SHDN} (in), 5 VOUT (power), 6 VIN (power)

## LTC3429ES6#PBF
designator U?
600 mA, 500 kHz Micropower Synchronous Boost Converter with Output Disconnect, 6-pin SOT23 (S6-6), -40 to 85 degC, Pb-Free; Manufacturer: Linear Technology; PartNumber: LTC3429ES6#PBF; Number of Outputs: 1; PackageReference: S6-6; PackageDescription: 6-Pin Plastic TSOT-23, Body 2.9 x 1.63 mm, Pitch 0.95 mm; Supplier 1: Farnell; Supplier Part Number 1: 2308144; RoHS: TRUE; Code_JEDEC: MO-193
footprint LT-S6-6-TSOT-23_N (SOT23, 6-Leads, Body 2.9x1.75mm, Pitch 0.95mm, IPC Medium Density)
footprint LT-S6-6-TSOT-23_L (SOT23, 6-Leads, Body 2.9x1.75mm, Pitch 0.95mm, IPC High Density)
footprint LT-S6-6-TSOT-23_M (SOT23, 6-Leads, Body 2.9x1.75mm, Pitch 0.95mm, IPC Low Density)
pins: 1 SW, 2 GND (power), 3 FB (in), 4 ~{SHDN} (in), 5 VOUT (power), 6 VIN (power)

## LTC3429ES6#TR
designator U?
600 mA, 500 kHz Micropower Synchronous Boost Converter with Output Disconnect, 6-pin SOT23 (S6-6), -40 to 85 degC, Tape and Reel; Manufacturer: Linear Technology; PartNumber: LTC3429ES6#TR; Number of Outputs: 1; PackageReference: S6-6; PackageDescription: 6-Pin Plastic TSOT-23, Body 2.9 x 1.63 mm, Pitch 0.95 mm; Supplier 1: Digi-Key; Supplier Part Number 1: LTC3429ES6#TR-ND; RoHS: FALSE; Code_JEDEC: MO-193
footprint LT-S6-6-TSOT-23_N (SOT23, 6-Leads, Body 2.9x1.75mm, Pitch 0.95mm, IPC Medium Density)
footprint LT-S6-6-TSOT-23_L (SOT23, 6-Leads, Body 2.9x1.75mm, Pitch 0.95mm, IPC High Density)
footprint LT-S6-6-TSOT-23_M (SOT23, 6-Leads, Body 2.9x1.75mm, Pitch 0.95mm, IPC Low Density)
pins: 1 SW, 2 GND (power), 3 FB (in), 4 ~{SHDN} (in), 5 VOUT (power), 6 VIN (power)

## LTC3429ES6#TRM
designator U?
600 mA, 500 kHz Micropower Synchronous Boost Converter with Output Disconnect, 6-pin SOT23 (S6-6), -40 to 85 degC, Mini Tape and Reel; Manufacturer: Linear Technology; PartNumber: LTC3429ES6#TRM; Number of Outputs: 1; PackageReference: S6-6; PackageDescription: 6-Pin Plastic TSOT-23, Body 2.9 x 1.63 mm, Pitch 0.95 mm; Supplier 1: Digi-Key; Supplier Part Number 1: LTC3429ES6#TRM-ND; RoHS: FALSE; Code_JEDEC: MO-193
footprint LT-S6-6-TSOT-23_N (SOT23, 6-Leads, Body 2.9x1.75mm, Pitch 0.95mm, IPC Medium Density)
footprint LT-S6-6-TSOT-23_L (SOT23, 6-Leads, Body 2.9x1.75mm, Pitch 0.95mm, IPC High Density)
footprint LT-S6-6-TSOT-23_M (SOT23, 6-Leads, Body 2.9x1.75mm, Pitch 0.95mm, IPC Low Density)
pins: 1 SW, 2 GND (power), 3 FB (in), 4 ~{SHDN} (in), 5 VOUT (power), 6 VIN (power)

## LTC3429ES6#TRMPBF
designator U?
600 mA, 500 kHz Micropower Synchronous Boost Converter with Output Disconnect, 6-pin SOT23 (S6-6), -40 to 85 degC, Pb-Free, Mini Tape and Reel; Manufacturer: Linear Technology; PartNumber: LTC3429ES6#TRMPBF; Number of Outputs: 1; PackageReference: S6-6; PackageDescription: 6-Pin Plastic TSOT-23, Body 2.9 x 1.63 mm, Pitch 0.95 mm; Supplier 1: Digi-Key; Supplier Part Number 1: LTC3429ES6#TRMPBFTR-ND; RoHS: TRUE; Code_JEDEC: MO-193
footprint LT-S6-6-TSOT-23_N (SOT23, 6-Leads, Body 2.9x1.75mm, Pitch 0.95mm, IPC Medium Density)
footprint LT-S6-6-TSOT-23_L (SOT23, 6-Leads, Body 2.9x1.75mm, Pitch 0.95mm, IPC High Density)
footprint LT-S6-6-TSOT-23_M (SOT23, 6-Leads, Body 2.9x1.75mm, Pitch 0.95mm, IPC Low Density)
pins: 1 SW, 2 GND (power), 3 FB (in), 4 ~{SHDN} (in), 5 VOUT (power), 6 VIN (power)

## LTC3429ES6#TRPBF
designator U?
600 mA, 500 kHz Micropower Synchronous Boost Converter with Output Disconnect, 6-pin SOT23 (S6-6), -40 to 85 degC, Pb-Free, Tape and Reel; Manufacturer: Linear Technology; PartNumber: LTC3429ES6#TRPBF; Number of Outputs: 1; PackageReference: S6-6; PackageDescription: 6-Pin Plastic TSOT-23, Body 2.9 x 1.63 mm, Pitch 0.95 mm; Supplier 1: Digi-Key; Supplier Part Number 1: LTC3429ES6#TRPBF-ND; RoHS: TRUE; Code_JEDEC: MO-193
footprint LT-S6-6-TSOT-23_N (SOT23, 6-Leads, Body 2.9x1.75mm, Pitch 0.95mm, IPC Medium Density)
footprint LT-S6-6-TSOT-23_L (SOT23, 6-Leads, Body 2.9x1.75mm, Pitch 0.95mm, IPC High Density)
footprint LT-S6-6-TSOT-23_M (SOT23, 6-Leads, Body 2.9x1.75mm, Pitch 0.95mm, IPC Low Density)
pins: 1 SW, 2 GND (power), 3 FB (in), 4 ~{SHDN} (in), 5 VOUT (power), 6 VIN (power)

## LTC3440EDD
designator U?
Micropower Synchronous Buck-Boost DC/DC Converter, 10-pin SON (DD-10), -40 to 85 degC; Manufacturer: Linear Technology; PartNumber: LTC3440EDD; Number of Outputs: 1; PackageReference: DD-10; PackageDescription: 10-Pin Plastic DFN, Body 3 x 3 mm, Pitch 0.5 mm; Supplier 1: Newark; Supplier Part Number 1: 56M7796; RoHS: FALSE; Code_JEDEC: MO-229
footprint LT-DD-10_V (SON, 10-Leads, Body 3x3mm, Pitch 0.5mm, Thermal Pad 2.38x1.65mm)
pins: 1 RT "Timing Resistor to Program the Oscillator Frequency. The programming frequency range is 300kHz to 2MHz.", 2 MODE/SYNC (in) "MODE/SYNC = External CLK : Synchronization of the internal oscillator. A clock frequency of twice the desired switching frequency and with a pulse width between 100ns and 2us is applied. The oscillator free running frequency (See Datasheet)", 3 SW1 "Switch Pin Where the Internal Switches A and B are Connected. Connect inductor from SW1 to SW2. An optional Schottky diode can be connected from SW1 to ground. Minimize trace length to keep EMI down.", 4 SW2 "Switch Pin Where the Internal Switches C and D are Connected. For applications with output voltages over 4.3V, a Schottky diode is required from SW2 to VOUT to ensure the SW pin does not exhibit excess voltage.", 5 GND (power) "Signal and Power Ground for the IC.", 6 VOUT (power) "Output of the Synchronous Rectifier. A filtercapacitor is placed from VOUT to GND.", 7 VIN (power) "Input Supply Pin. Internal VCC for the IC. A ceramic bypass capacitor as close to the VIN pin and GND (Pin 5) is required.", 8 ~{SHDN}/SS (in) "Combined Soft-Start and Shutdown. Grounding this pin shuts down the IC. Tie to >1.5V to enable the IC and > 2.5V to ensure the error amp is not clamped from soft-start. An RC from the shutdown command signal to this pin will (See Datasheet)", 9 FB (in) "Feedback Pin. Connect resistor divider tap here. The output voltage can be adjusted from 2.5V to 5.5V. The feedback reference voltage is typically 1.22V.", 10 VC "Error Amp Output. A frequency compensation network is connected from this pin to the FB pin to compensate the loop. See the section “Compensating the Feedback Loop” for guidelines.", 11 EP (power) "Ground. This pin must be soldered to the PCB and electrically connected to ground."

## LTC3440EDD#PBF
designator U?
Micropower Synchronous Buck-Boost DC/DC Converter, 10-pin SON (DD-10), -40 to 85 degC, Pb-Free; Manufacturer: Linear Technology; PartNumber: LTC3440EDD#PBF; Number of Outputs: 1; PackageReference: DD-10; PackageDescription: 10-Pin Plastic DFN, Body 3 x 3 mm, Pitch 0.5 mm; Supplier 1: Digi-Key; Supplier Part Number 1: LTC3440EDD#PBF-ND; RoHS: TRUE; Code_JEDEC: MO-229
footprint LT-DD-10_V (SON, 10-Leads, Body 3x3mm, Pitch 0.5mm, Thermal Pad 2.38x1.65mm)
pins: 1 RT "Timing Resistor to Program the Oscillator Frequency. The programming frequency range is 300kHz to 2MHz.", 2 MODE/SYNC (in) "MODE/SYNC = External CLK : Synchronization of the internal oscillator. A clock frequency of twice the desired switching frequency and with a pulse width between 100ns and 2us is applied. The oscillator free running frequency (See Datasheet)", 3 SW1 "Switch Pin Where the Internal Switches A and B are Connected. Connect inductor from SW1 to SW2. An optional Schottky diode can be connected from SW1 to ground. Minimize trace length to keep EMI down.", 4 SW2 "Switch Pin Where the Internal Switches C and D are Connected. For applications with output voltages over 4.3V, a Schottky diode is required from SW2 to VOUT to ensure the SW pin does not exhibit excess voltage.", 5 GND (power) "Signal and Power Ground for the IC.", 6 VOUT (power) "Output of the Synchronous Rectifier. A filtercapacitor is placed from VOUT to GND.", 7 VIN (power) "Input Supply Pin. Internal VCC for the IC. A ceramic bypass capacitor as close to the VIN pin and GND (Pin 5) is required.", 8 ~{SHDN}/SS (in) "Combined Soft-Start and Shutdown. Grounding this pin shuts down the IC. Tie to >1.5V to enable the IC and > 2.5V to ensure the error amp is not clamped from soft-start. An RC from the shutdown command signal to this pin will (See Datasheet)", 9 FB (in) "Feedback Pin. Connect resistor divider tap here. The output voltage can be adjusted from 2.5V to 5.5V. The feedback reference voltage is typically 1.22V.", 10 VC "Error Amp Output. A frequency compensation network is connected from this pin to the FB pin to compensate the loop. See the section “Compensating the Feedback Loop” for guidelines.", 11 EP (power) "Ground. This pin must be soldered to the PCB and electrically connected to ground."

## LTC3440EDD#TR
designator U?
Micropower Synchronous Buck-Boost DC/DC Converter, 10-pin SON (DD-10), -40 to 85 degC, Tape and Reel; Manufacturer: Linear Technology; PartNumber: LTC3440EDD#TR; Number of Outputs: 1; PackageReference: DD-10; PackageDescription: 10-Pin Plastic DFN, Body 3 x 3 mm, Pitch 0.5 mm; RoHS: FALSE; Code_JEDEC: MO-229
footprint LT-DD-10_V (SON, 10-Leads, Body 3x3mm, Pitch 0.5mm, Thermal Pad 2.38x1.65mm)
pins: 1 RT "Timing Resistor to Program the Oscillator Frequency. The programming frequency range is 300kHz to 2MHz.", 2 MODE/SYNC (in) "MODE/SYNC = External CLK : Synchronization of the internal oscillator. A clock frequency of twice the desired switching frequency and with a pulse width between 100ns and 2us is applied. The oscillator free running frequency (See Datasheet)", 3 SW1 "Switch Pin Where the Internal Switches A and B are Connected. Connect inductor from SW1 to SW2. An optional Schottky diode can be connected from SW1 to ground. Minimize trace length to keep EMI down.", 4 SW2 "Switch Pin Where the Internal Switches C and D are Connected. For applications with output voltages over 4.3V, a Schottky diode is required from SW2 to VOUT to ensure the SW pin does not exhibit excess voltage.", 5 GND (power) "Signal and Power Ground for the IC.", 6 VOUT (power) "Output of the Synchronous Rectifier. A filtercapacitor is placed from VOUT to GND.", 7 VIN (power) "Input Supply Pin. Internal VCC for the IC. A ceramic bypass capacitor as close to the VIN pin and GND (Pin 5) is required.", 8 ~{SHDN}/SS (in) "Combined Soft-Start and Shutdown. Grounding this pin shuts down the IC. Tie to >1.5V to enable the IC and > 2.5V to ensure the error amp is not clamped from soft-start. An RC from the shutdown command signal to this pin will (See Datasheet)", 9 FB (in) "Feedback Pin. Connect resistor divider tap here. The output voltage can be adjusted from 2.5V to 5.5V. The feedback reference voltage is typically 1.22V.", 10 VC "Error Amp Output. A frequency compensation network is connected from this pin to the FB pin to compensate the loop. See the section “Compensating the Feedback Loop” for guidelines.", 11 EP (power) "Ground. This pin must be soldered to the PCB and electrically connected to ground."